# EAGLE library part 93* (library jt-microchip)
Microchip 93AA, 93LC and 93C series EEPROM
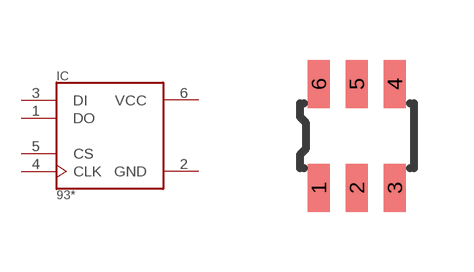
[diagram p0: symbol with the pads of SOT23-6; footprint SOT23-6]

Designator prefix IC

## 93AA86A (SIZE: 2048x8; VCCRANGE: 1.8-5.5), 93AA86B (SIZE: 1024x16; VCCRANGE: 1.8-5.5), 93C86A (SIZE: 2048x8; VCCRANGE: 4.5-5.5), 93C86B (SIZE: 1024x16; VCCRANGE: 4.5-5.5), 93LC86A (SIZE: 2048x8; VCCRANGE: 2.5-5.5), 93LC86B (SIZE: 1024x16; VCCRANGE: 2.5-5.5)  [SOT23-6]
1  DO  out
2  GND  pwr
3  DI  in
4  CLK  in
5  CS  in
6  VCC  pwr

## Footprint SOT23-6 (pad centres in mm)
SOT-23-6
smd 0.55 x 1.2: 1 -0.95,-1.3; 2 0,-1.3; 3 0.95,-1.3; 4 0.95,1.3; 5 0,1.3; 6 -0.95,1.3